# EAGLE library part CONN_533980667_PICOBLADE_X_6_SMD (library 3D_MIG_Controller)
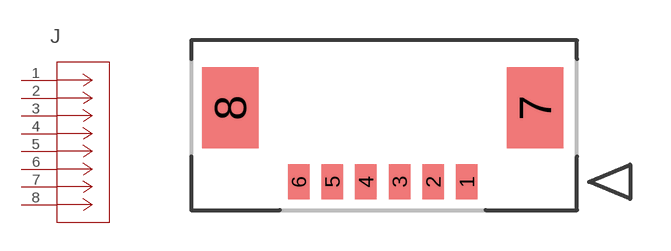
[diagram p92: symbol with the pads of CON_533980667; footprint CON_533980667]

Designator prefix J

## CONN_533980667_PICOBLADE_X_6_SMD (COPYRIGHT: Copyright (C) 2023 Ultra Librarian. All rights reserved.; MANUFACTURER_PART_NUMBER: 533980667; MFR_NAME: Molex Connector Corporation)  [CON_533980667]
1  1  pas
2  2  pas
3  3  pas
4  4  pas
5  5  pas
6  6  pas
7  7  pas
8  8  pas

## Footprint CON_533980667 (pad centres in mm)
smd 0.8 x 1.3: 1 0,0; 2 -1.25,0; 3 -2.5,0; 4 -3.75,0; 5 -5,0; 6 -6.25,0
smd 2.1 x 3: 7 2.55,2.75; 8 -8.8,2.75